# EAGLE library part 1054291116 (library microfloat)
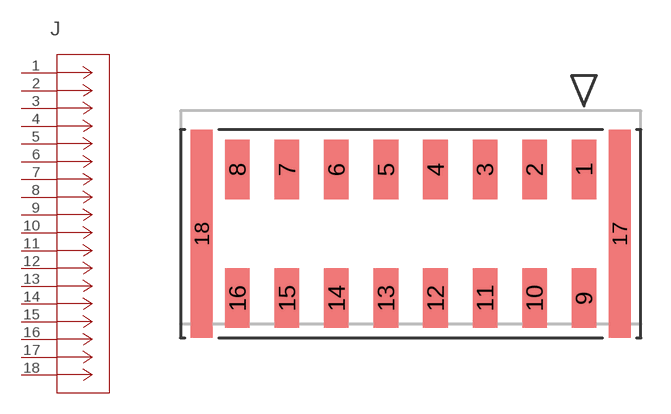
[diagram p10: symbol with the pads of CON_1054291116_MOL; footprint CON_1054291116_MOL]

Designator prefix J

## 1054291116 (BUILT_BY: Molex_Team; COPYRIGHT: Copyright (C) 2018 Accelerated Designs. All rights reserved; MANUFACTURER_PART_NUMBER: 1054291116; SOURCELIBRARY: Add_to_database_2021-02-05; VENDOR: Molex Connector Corporation)  [CON_1054291116_MOL]
1  1  pas
2  2  pas
3  3  pas
4  4  pas
5  5  pas
6  6  pas
7  7  pas
8  8  pas
9  9  pas
10  10  pas
11  11  pas
12  12  pas
13  13  pas
14  14  pas
15  15  pas
16  16  pas
17  17  pas
18  18  pas

## Footprint CON_1054291116_MOL (pad centres in mm)
smd 1.24 x 3: 1 0,0; 2 -2.5,0; 3 -5,0; 4 -7.5,0; 5 -10,0; 6 -12.5,0; 7 -15,0; 8 -17.5,0; 9 0,-6.5; 10 -2.5,-6.5; 11 -5,-6.5; 12 -7.5,-6.5; 13 -10,-6.5; 14 -12.5,-6.5; 15 -15,-6.5; 16 -17.5,-6.5
smd 1.1 x 10.5: 17 1.805,-3.25; 18 -19.305,-3.25